# EAGLE library part J-SE880 (library telit)
The Telit’s Jupiter SE880 is the world smallest, best-in-class turnkey GPS 3D-SiP navigation solution to combine off-the-die RF circuitries and most passives based on the CSR SiRFStarIVTM GPS PVT engine. The core of SE880 is state of the art GPS architecture employing spatially calibrated waveguide-quality radio paths inside the three-dimensional space of its architecture drastically reducing parasitic impedances characteristic of traditional 2-D RF designs. The SE880 is suitable for L1-band GPS and A-GPS systems to achieve bestin- class performance in all dimensions critical for regular or size-constrained GPS applications. Jupiter SE880 is in 4.7 x 4.7 x 1.4 mm, 34 pins LGA package to make the chipset-versusmodule decision an easy one to make for device integrators. SE880 chip size receiver module was conceived to shorten Time-to-Market and Integrators can attain a working SE880-based design in as little as a week versus several months when starting from a chipset reference design.
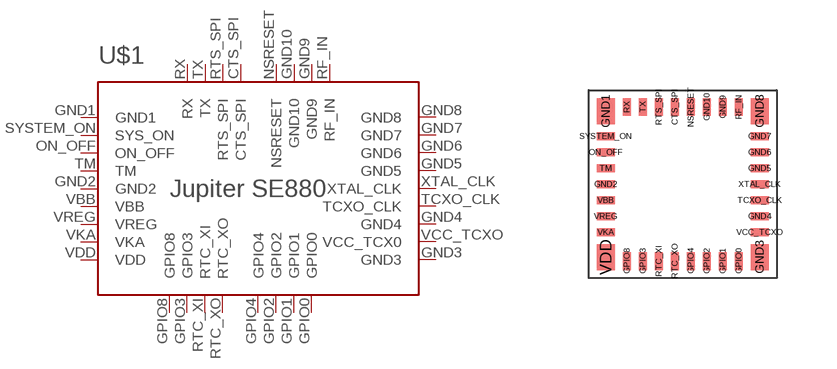
[diagram p0: symbol with the pads of SE880; footprint SE880]

Designator prefix -

## J-SE880 (DIGIKEY#: 943-1019-1-ND; DIGIKEY-LINK: http://www.digikey.com/product-detail/en/SE880GPSR22R001/943-1019-1-ND/3991550; MFG#: SE880GPSR22R001; PRICE-1: 13.75 USD)  [SE880]
CTS_SPI  CTS_SPI
GND1  GND1
GND2  GND2
GND3  GND3
GND4  GND4
GND5  GND5
GND6  GND6
GND7  GND7
GND8  GND8
GND9  GND9
GND10  GND10
GPIO0  GPIO0
GPIO1  GPIO1
GPIO2  GPIO2
GPIO3  GPIO3
GPIO4  GPIO4
GPIO8  GPIO8
NSRESET  NSRESET
ON_OFF  ON_OFF
RF_IN  RF_IN
RTC_XI  RTC_XI
RTC_XO  RTC_XO
RTS_SPI  RTS_SPI
RX  RX
SYSTEM_ON  SYS_ON
TCXO_CLK  TCXO_CLK
TM  TM
TX  TX
VBB  VBB
VCC_TCXO  VCC_TCX0
VDD  VDD
VKA  VKA
VREG  VREG
XTAL_CLK  XTAL_CLK

## Footprint SE880 (pad centres in mm)
smd 0.2 x 0.45: CTS_SPI 2.15,4.275; GND9 3.35,4.275; GND10 2.95,4.275; GPIO0 3.75,0.425; GPIO1 3.35,0.425; GPIO2 2.95,0.425; GPIO3 1.35,0.425; GPIO4 2.55,0.425; GPIO8 0.95,0.425; NSRESET 2.55,4.275; RF_IN 3.75,4.275; RTC_XI 1.75,0.425; RTC_XO 2.15,0.425; RTS_SPI 1.75,4.275; RX 0.95,4.275; TX 1.35,4.275
smd 0.45 x 0.65: GND1 0.425,4.175; GND3 4.275,0.525; GND8 4.275,4.175; VDD 0.425,0.525
smd 0.45 x 0.2: GND2 0.425,2.35; GND4 4.275,1.55; GND5 4.275,2.75; GND6 4.275,3.15; GND7 4.275,3.55; ON_OFF 0.425,3.15; SYSTEM_ON 0.425,3.55; TCXO_CLK 4.275,1.95; TM 0.425,2.75; VBB 0.425,1.95; VCC_TCXO 4.275,1.15; VKA 0.425,1.15; VREG 0.425,1.55; XTAL_CLK 4.275,2.35